# EAGLE library part 62900416021 (library SamacSys_Parts)
Wurth Elektronik Female 1 Port Right Angle SMT Version 2 Type A USB Connector, 30 V ac, 1.5A WR-COM 62900 Source: Datasheet <https://componentsearchengine.com/Datasheets/1/62900416021.pdf>
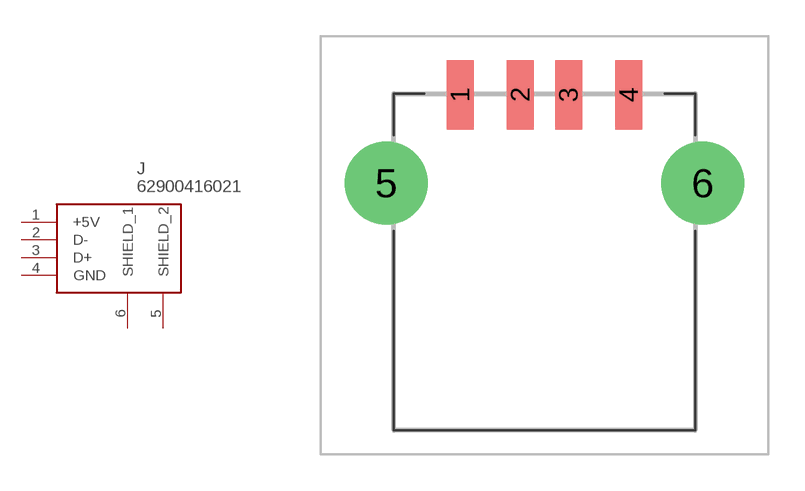
[diagram p0: symbol with the pads of 62900416021; footprint 62900416021]

Designator prefix J

## 62900416021 (DESCRIPTION: Wurth Elektronik Female 1 Port Right Angle SMT Version 2 Type A USB Connector, 30 V ac, 1.5A WR-COM 62900; HEIGHT: 7mm; MANUFACTURER_NAME: Wurth Elektronik; MANUFACTURER_PART_NUMBER: 62900416021; MOUSER_PART_NUMBER: 710-62900416021; MOUSER_PRICE-STOCK: https://www.mouser.com/Search/Refine.aspx?Keyword=710-62900416021)  [62900416021]
1  +5V
2  D-
3  D+
4  GND
5  SHIELD_2
6  SHIELD_1

## Footprint 62900416021 (pad centres in mm)
USB 2.0 SMT TYPE A
smd 1.12 x 2.88: 1 -3.5,6.255; 2 -1,6.255; 3 1,6.255; 4 3.5,6.255
drill 2.3 pad 3.45: 5 -6.57,2.585; 6 6.57,2.585